# Altium footprint library Headers.PcbLib: 31 footprints (part 1 of 2)
Each footprint in its own frame and in the unit in brackets; x right, y up, seen from the top. Pads: shape width x height; smd on the part's side, far side on the other; paste and mask are expansions set on the pad; w line width, h text height; cw(c..) or ccw(c..) is an arc to the next point about the centre after c.
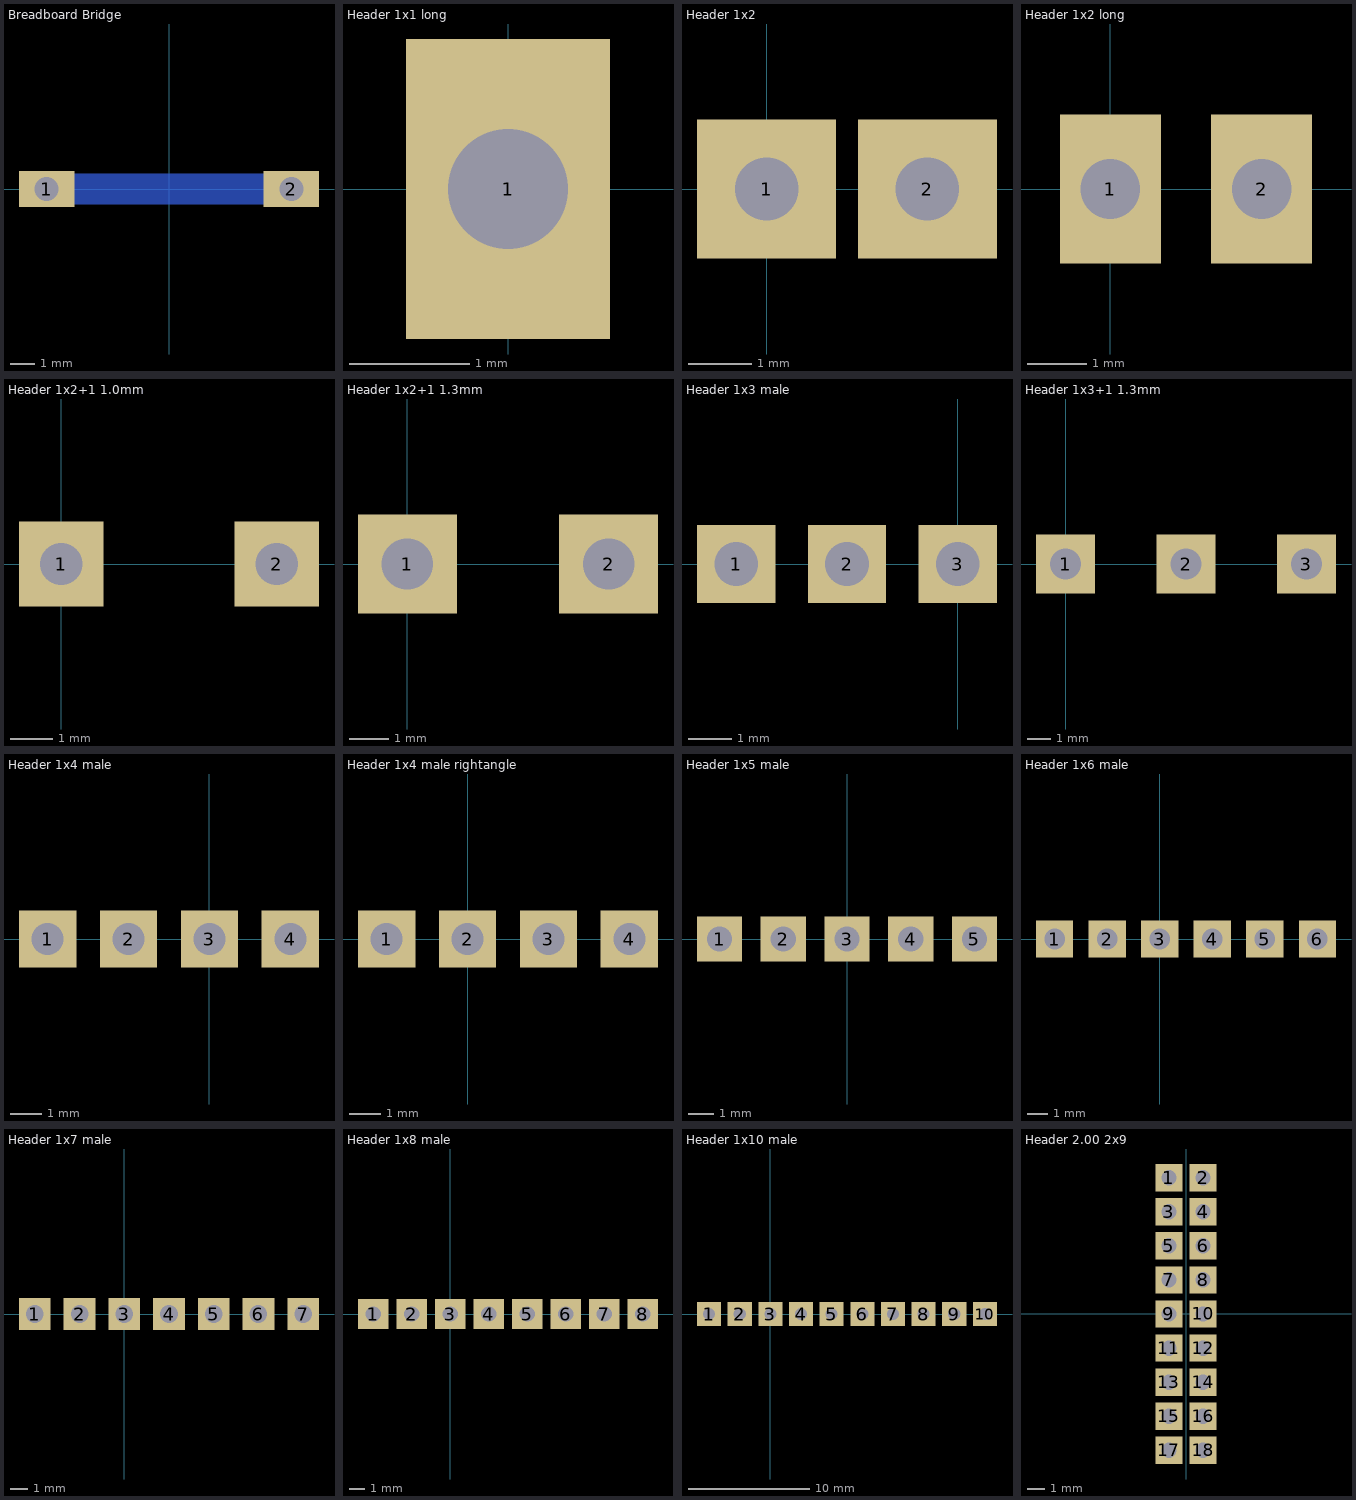
[diagram p0: the footprints below, top view; thin cyan lines are the x and y axes]

## Breadboard Bridge [mm] "2.54mm"
pads (2):
  rect 2.3x1.5 hole 1: 1(-5.08,0) 2(5.08,0)
Bottom Layer:
  rectangle: -4.445,-0.635 4.445,0.635

## Header 1x1 long [mm] "2.54mm"
pads (1):
  rect 1.7x2.5 hole 1: 1(0,0)

## Header 1x2 [mm] "2.54mm"
pads (2):
  rect 2.2x2.2 hole 1: 1(0,0) 2(2.54,0)

## Header 1x2 long [mm] "2.54mm"
pads (2):
  rect 1.7x2.5 hole 1: 1(0,0) 2(2.54,0)

## Header 1x2+1 1.0mm [mm] "2.54mm"
pads (2):
  rect 2x2 hole 1: 1(0,0) 2(5.08,0)

## Header 1x2+1 1.3mm [mm] "2.54mm"
pads (2):
  rect 2.5x2.5 hole 1.3: 1(0,0) 2(5.08,0)

## Header 1x3 male [mm] "2.54mm"
pads (3):
  rect 1.8x1.8 hole 1: 1(-5.08,0) 2(-2.54,0) 3(0,0)
3D body: height 8.6, standoff -3, extent -6.35,-1.27 1.27,1.27

## Header 1x3+1 1.3mm [mm] "2.54mm"
pads (3):
  rect 2.5x2.5 hole 1.3: 1(0,0) 2(5.08,0) 3(10.16,0)

## Header 1x4 male [mm] "2.54mm"
pads (4):
  rect 1.8x1.8 hole 1: 1(-5.08,0) 2(-2.54,0) 3(0,0) 4(2.54,0)
3D body: height 8.6, standoff -3, extent -6.35,-1.27 3.81,1.27

## Header 1x4 male rightangle [mm]
pads (4):
  rect 1.8x1.8 hole 1: 1(-2.54,0) 2(0,0) 3(2.54,0) 4(5.08,0)
3D body: height 2.64, standoff -2.9, extent -3.81,-0.375 6.35,9.975

## Header 1x5 male [mm] "2.54mm"
pads (5):
  rect 1.8x1.8 hole 1: 1(-5.08,0) 2(-2.54,0) 3(0,0) 4(2.54,0) 5(5.08,0)
3D body: height 8.6, standoff -3, extent -6.35,-1.27 6.35,1.27

## Header 1x6 male [mm] "2.54mm"
pads (6):
  rect 1.8x1.8 hole 1: 1(-5.08,0) 2(-2.54,0) 3(0,0) 4(2.54,0) 5(5.08,0) 6(7.62,0)
3D body: height 8.6, standoff -3, extent -6.35,-1.27 8.89,1.27

## Header 1x7 male [mm] "2.54mm"
pads (7):
  rect 1.8x1.8 hole 1: 1(-5.08,0) 2(-2.54,0) 3(0,0) 4(2.54,0) 5(5.08,0) 6(7.62,0) 7(10.16,0)
3D body: height 8.6, standoff -3, extent -6.35,-1.27 11.43,1.27

## Header 1x8 male [mm] "2.54mm"
pads (8):
  rect 2x2 hole 1: 1(-5.08,0) 2(-2.54,0) 3(0,0) 4(2.54,0) 5(5.08,0) 6(7.62,0) 7(10.16,0) 8(12.7,0)
3D body: height 8.6, standoff -3, extent 8.89,-1.27 13.97,1.27
3D body: height 8.6, standoff -3, extent -6.35,-1.27 8.89,1.27

## Header 1x10 male [mm] "2.54mm"
pads (10):
  rect 2x2 hole 1: 1(-5.08,0) 2(-2.54,0) 3(0,0) 4(2.54,0) 5(5.08,0) 6(7.62,0) 7(10.16,0) 8(12.7,0) 9(15.24,0) 10(17.78,0)
3D body: height 8.6, standoff -3, extent -6.35,-1.27 8.89,1.27
3D body: height 8.6, standoff -3, extent 8.89,-1.27 19.05,1.27

## Header 2.00 2x9 [mm]
pads (18):
  rect 1.6x1.6 hole 0.9: 1(-1,8) 2(1,8) 3(-1,6) 4(1,6) 5(-1,4) 6(1,4) 7(-1,2) 8(1,2) 9(-1,0) 10(1,0) 11(-1,-2) 12(1,-2) 13(-1,-4) 14(1,-4) 15(-1,-6) 16(1,-6) 17(-1,-8) 18(1,-8)